# EAGLE library part 2081-1208 (library con-wago_2081)
Serie 2081, Klemmenleiste mit Betätigungsdrückern mit abgewinkelten Lötstiften in Reihe / Series 2081, Terminal strip with push-buttons with angled, in-line solder pins Polzahl / Pole No.: 8 Rastermaß / Pitch: 3.5 mm Bemessungsspannung / Rated Voltage: 160 V Nennstrom / Nominal Current: 17.5 A Leiterquerschnitt / Conductor Size: 0.2 - 1.5 mm2 Anschlusstechnik / Connection Technology: CAGE CLAMP® S Lötstiftlänge: / Solder Pin Length: 3.6 mm Leitereinführung (zur Platine) / Conductor entry angle (to PCB): 0 ° Farbe / Color: grau / gray Stand: 01.01.2014. Die jeweils aktuellen Daten zu diesem Artikel finden Sie in unserem Produktkatalog, den Sie unter www.wago.com einsehen können. As of: 01/01/2014. Please find the newest data for this article in our product catalogue, which can be viewed under www.wago.com.
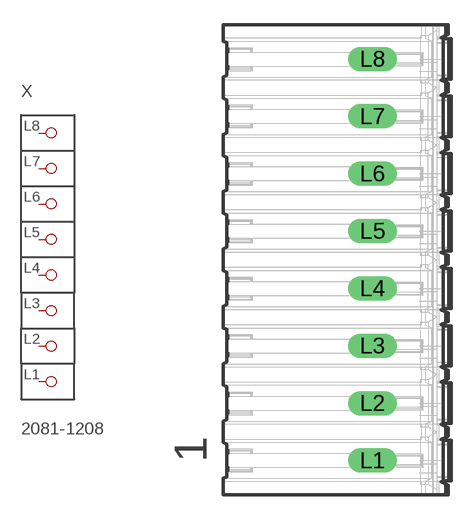
[diagram p1: symbol with the pads of P-2081-1208; footprint P-2081-1208]

Designator prefix X

## 2081-1208  [P-2081-1208]
L1  P1
L2  P2
L3  P3
L4  P4
L5  P5
L6  P6
L7  P7
L8  P8

## Footprint P-2081-1208 (pad centres in mm)
drill 1 long: L1 2.15,-12.25; L2 2.15,-8.75; L3 2.15,-5.25; L4 2.15,-1.75; L5 2.15,1.75; L6 2.15,5.25; L7 2.15,8.75; L8 2.15,12.25